# Altium schematic symbol library components.SchLib: 16 symbols
Pins are listed as number, name and electrical type; pins without a type are passive.

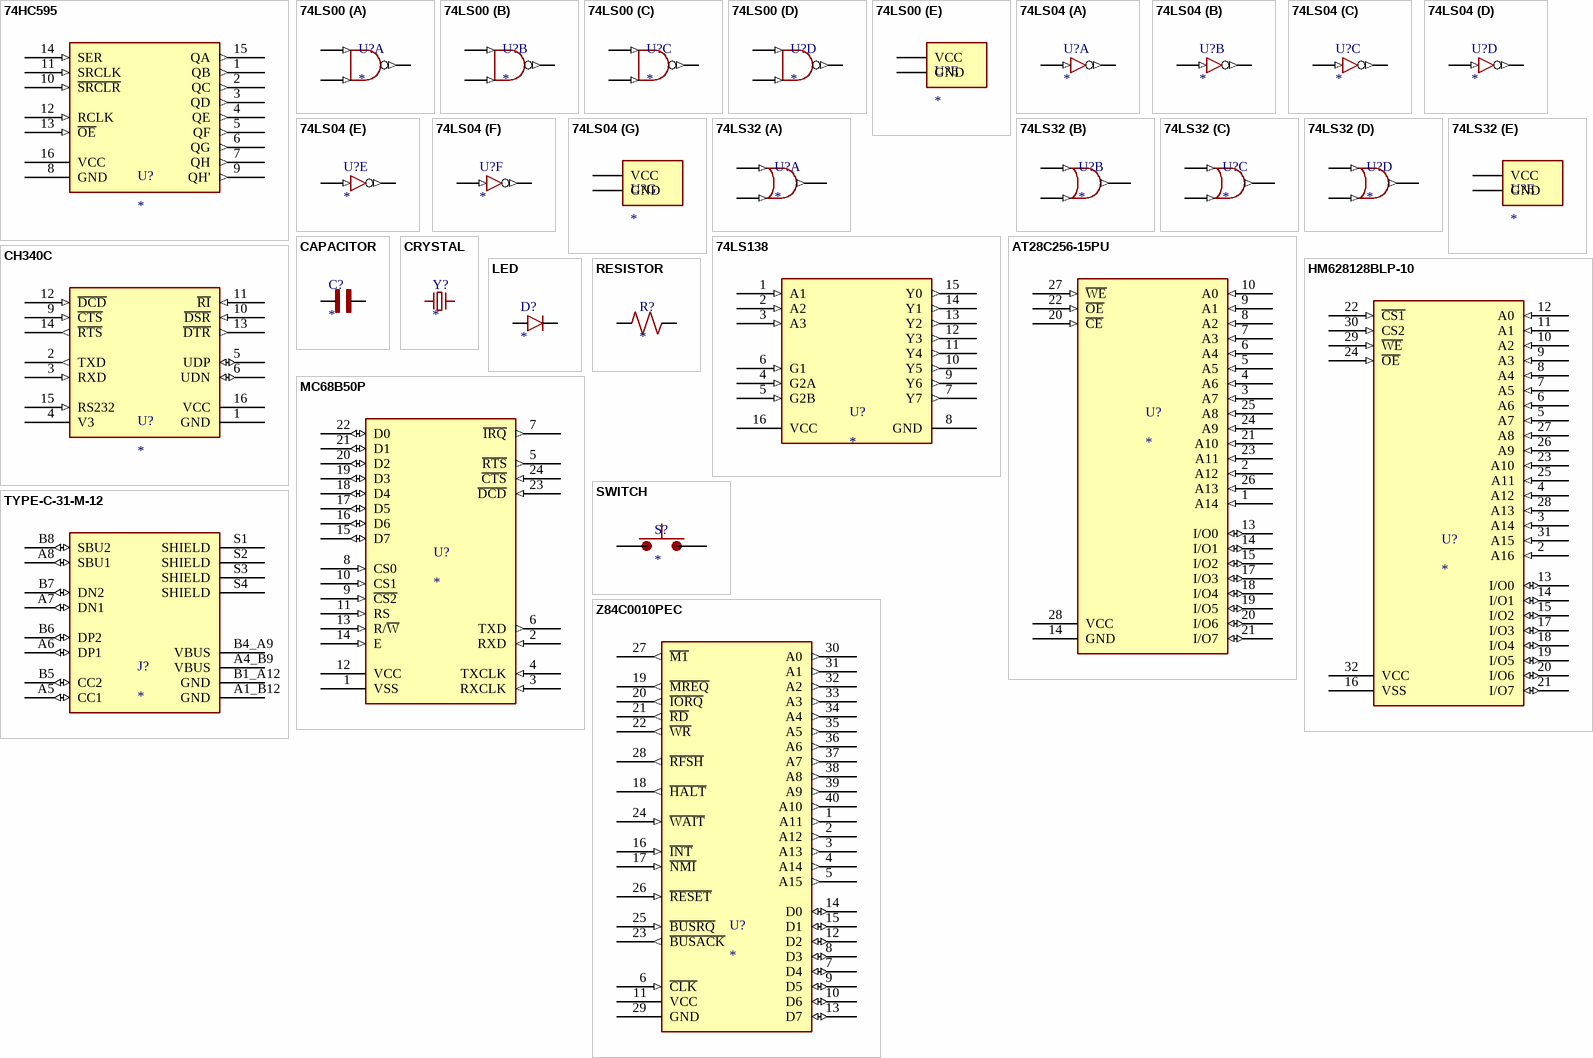
[diagram p0: symbols 74HC595 to Z84C0010PEC]

## 74HC595
designator U?
8-bit Shift Register
footprint DIP16
pins: 1 QB (out), 2 QC (out), 3 QD (out), 4 QE (out), 5 QF (out), 6 QG (out), 7 QH (out), 8 GND (power), 9 QH' (out), 10 ~{SRCLR} (in), 11 SRCLK (in), 12 RCLK (in), 13 ~{OE} (in), 14 SER (in), 15 QA (out), 16 VCC (power)

## 74LS00
designator U?
Quad NAND Gates
footprint DIP14
part A pins: 1 A1 (in), 2 B1 (in), 3 Y1 (out)
part B pins: 4 A2 (in), 5 B2 (in), 6 Y2 (out)
part C pins: 8 Y3 (out), 9 A3 (in), 10 B3 (in)
part D pins: 11 Y4 (out), 12 A4 (in), 13 B4 (in)
part E pins: 7 GND (power), 14 VCC (power)

## 74LS04
designator U?
Hex Inverters
footprint DIP14
part A pins: 1 A1 (in), 2 A2 (out)
part B pins: 3 A2 (in), 4 Y2 (out)
part C pins: 5 A3 (in), 6 Y3 (out)
part D pins: 8 Y4 (out), 9 A4 (in)
part E pins: 10 Y5 (out), 11 A5 (in)
part F pins: 12 Y6 (out), 13 A6 (in)
part G pins: 7 GND (power), 14 VCC (power)

## 74LS32
designator U?
Quad OR Gate
footprint DIP14
part A pins: 1 A1 (in), 2 B1 (in), 3 Y1 (out)
part B pins: 4 A2 (in), 5 B2 (in), 6 Y2 (out)
part C pins: 8 Y3 (out), 9 A3 (in), 10 B3 (in)
part D pins: 11 Y4 (out), 12 A4 (in), 13 B4 (in)
part E pins: 7 GND (power), 14 VCC (power)

## 74LS138
designator U?
3-to-8 Line Decoder
footprint DIP16
pins: 1 A1 (in), 2 A2 (in), 3 A3 (in), 4 G2A (in), 5 G2B (in), 6 G1 (in), 7 Y7 (out), 8 GND (power), 9 Y6 (out), 10 Y5 (out), 11 Y4 (out), 12 Y3 (out), 13 Y2 (out), 14 Y1 (out), 15 Y0 (out), 16 VCC (power)

## AT28C256-15PU
designator U?
32 KB EEPROM
footprint DIP28
pins: 1 A14 (in), 2 A12 (in), 3 A7 (in), 4 A6 (in), 5 A5 (in), 6 A4 (in), 7 A3 (in), 8 A2 (in), 9 A1 (in), 10 A0 (in), 13 I/O0 (io), 14 I/O1 (io), 14 GND (power), 15 I/O2 (io), 17 I/O3 (io), 18 I/O4 (io), 19 I/O5 (io), 20 I/O6 (io), 20 ~{CE} (in), 21 A10 (in), 21 I/O7 (io), 22 ~{OE} (in), 23 A11 (in), 24 A9 (in), 25 A8 (in), 26 A13 (in), 27 ~{WE} (in), 28 VCC (power)

## CAPACITOR
designator C?
MP: ECWFG70105K; MF: Panasonic; SnapEDA_Link: https://www.snapeda.com/parts/ECWFG70105K/Panasonic/view-part/?ref=snap; Availability: In Stock; Price: None; Check_prices: https://www.snapeda.com/parts/ECWFG70105K/Panasonic/view-part/?ref=eda; Value: *; Purchase-URL: https://pricing.snapeda.com/search/part/ECWFG70105K/?ref=eda; Package: MOLDED-2 Panasonic
footprint Capacitor
pins: 1, 2

## CH340C
designator U?
UART-to-USB Converter IC
footprint SOP127P600X175-16M (SOP, 16-Leads, Body 9.90x3.90mm, Pitch 1.27mm, IPC Low Density)
pins: 1 GND (power), 2 TXD (out), 3 RXD (in), 4 V3 (power), 5 UDP (io), 6 UDN (io), 9 ~{CTS} (in), 10 ~{DSR} (in), 11 ~{RI} (in), 12 ~{DCD} (in), 13 ~{DTR} (out), 14 ~{RTS} (out), 15 RS232 (in), 16 VCC (power)

## CRYSTAL
designator Y?
MF: IQD Frequency Products; MP: LFXTAL003056B; SnapEDA_Link: https://www.snapeda.com/parts/LFXTAL003056B/IQD+Frequency+Products/view-part/?ref=snap; Package: None; Value: *; Check_prices: https://www.snapeda.com/parts/LFXTAL003056B/IQD+Frequency+Products/view-part/?ref=eda
footprint HC49S
pins: 1, 2

## HM628128BLP-10
designator U?
128 KB SRAM
footprint DIP32
pins: 2 A16 (in), 3 A14 (in), 4 A12 (in), 5 A7 (in), 6 A6 (in), 7 A5 (in), 8 A4 (in), 9 A3 (in), 10 A2 (in), 11 A1 (in), 12 A0 (in), 13 I/O0 (io), 14 I/O1 (io), 15 I/O2 (io), 16 VSS (power), 17 I/O3 (io), 18 I/O4 (io), 19 I/O5 (io), 20 I/O6 (io), 21 I/O7 (io), 22 ~{CS1} (in), 23 A10 (in), 24 ~{OE} (in), 25 A11 (in), 26 A9 (in), 27 A8 (in), 28 A13 (in), 29 ~{WE} (in), 30 CS2 (in), 31 A15 (in), 32 VCC (power)

## LED
designator D?
footprint DIODE
pins: A, K

## MC68B50P
designator U?
UART Peripheral IC
footprint DIP24
pins: 1 VSS (power), 2 RXD (in), 3 RXCLK (in), 4 TXCLK (in), 5 ~{RTS} (out), 6 TXD (out), 7 ~{IRQ} (out), 8 CS0 (in), 9 ~{CS2} (in), 10 CS1 (in), 11 RS (in), 12 VCC (power), 13 R/~{W} (in), 14 E (in), 15 D7 (io), 16 D6 (io), 17 D5 (io), 18 D4 (io), 19 D3 (io), 20 D2 (io), 21 D1 (io), 22 D0 (io), 23 ~{DCD} (in), 24 ~{CTS} (in)

## RESISTOR
designator R?
MP: ERJU01J131C; Package: None; Availability: Unavailable; Value: *; Price: None
footprint Axial 0.4
pins: 1, 2

## SWITCH
designator S?
MF: ALPS; MP: SKRPABE010; SnapEDA_Link: https://www.snapeda.com/parts/SKRPABE010/ALPS/view-part/?ref=snap; Package: None; Value: *; Check_prices: https://www.snapeda.com/parts/SKRPABE010/ALPS/view-part/?ref=eda
footprint SW_PTS645SL43SMTR92LFS
pins: 1, 2 1, 3 2, 4 2

## TYPE-C-31-M-12
designator J?
USB-C Recepticle; MF: HRO Electronics Co., Ltd.; MP: TYPE-C-31-M-12; SnapEDA_Link: https://www.snapeda.com/parts/TYPE-C-31-M-12/HRO+Electronics+Co.%252C+Ltd./view-part/?ref=snap; Package: Package; Value: *; Check_prices: https://www.snapeda.com/parts/TYPE-C-31-M-12/HRO+Electronics+Co.%252C+Ltd./view-part/?ref=eda
footprint HRO_TYPE-C-31-M-12
pins: A1_B12 GND (power), A4_B9 VBUS (power), A5 CC1 (io), A6 DP1 (io), A7 DN1 (io), A8 SBU1 (io), B1_A12 GND (power), B4_A9 VBUS (power), B5 CC2 (io), B6 DP2 (io), B7 DN2 (io), B8 SBU2 (io), S1 SHIELD, S2 SHIELD, S3 SHIELD, S4 SHIELD

## Z84C0010PEC
designator U?
Z80 CPU
footprint DIP40
pins: 1 A11 (out), 2 A12 (out), 3 A13 (out), 4 A14 (out), 5 A15 (out), 6 ~{CLK} (in), 7 D4 (io), 8 D3 (io), 9 D5 (io), 10 D6 (io), 11 VCC (power), 12 D2 (io), 13 D7 (io), 14 D0 (io), 15 D1 (io), 16 ~{INT} (in), 17 ~{NMI} (in), 18 ~{HALT} (out), 19 ~{MREQ} (out), 20 ~{IORQ} (out), 21 ~{RD} (out), 22 ~{WR} (out), 23 ~{BUSACK} (out), 24 ~{WAIT} (in), 25 ~{BUSRQ} (in), 26 ~{RESET} (in), 27 ~{M1} (out), 28 ~{RFSH} (out), 29 GND (power), 30 A0 (out), 31 A1 (out), 32 A2 (out), 33 A3 (out), 34 A4 (out), 35 A5 (out), 36 A6 (out), 37 A7 (out), 38 A8 (out), 39 A9 (out), 40 A10 (out)